# Altium footprint library PcbLib1.PcbLib: 35 footprints (part 1 of 3)
Each footprint in its own frame and in the unit in brackets; x right, y up, seen from the top. Pads: shape width x height; smd on the part's side, far side on the other; paste and mask are expansions set on the pad; w line width, h text height; cw(c..) or ccw(c..) is an arc to the next point about the centre after c.
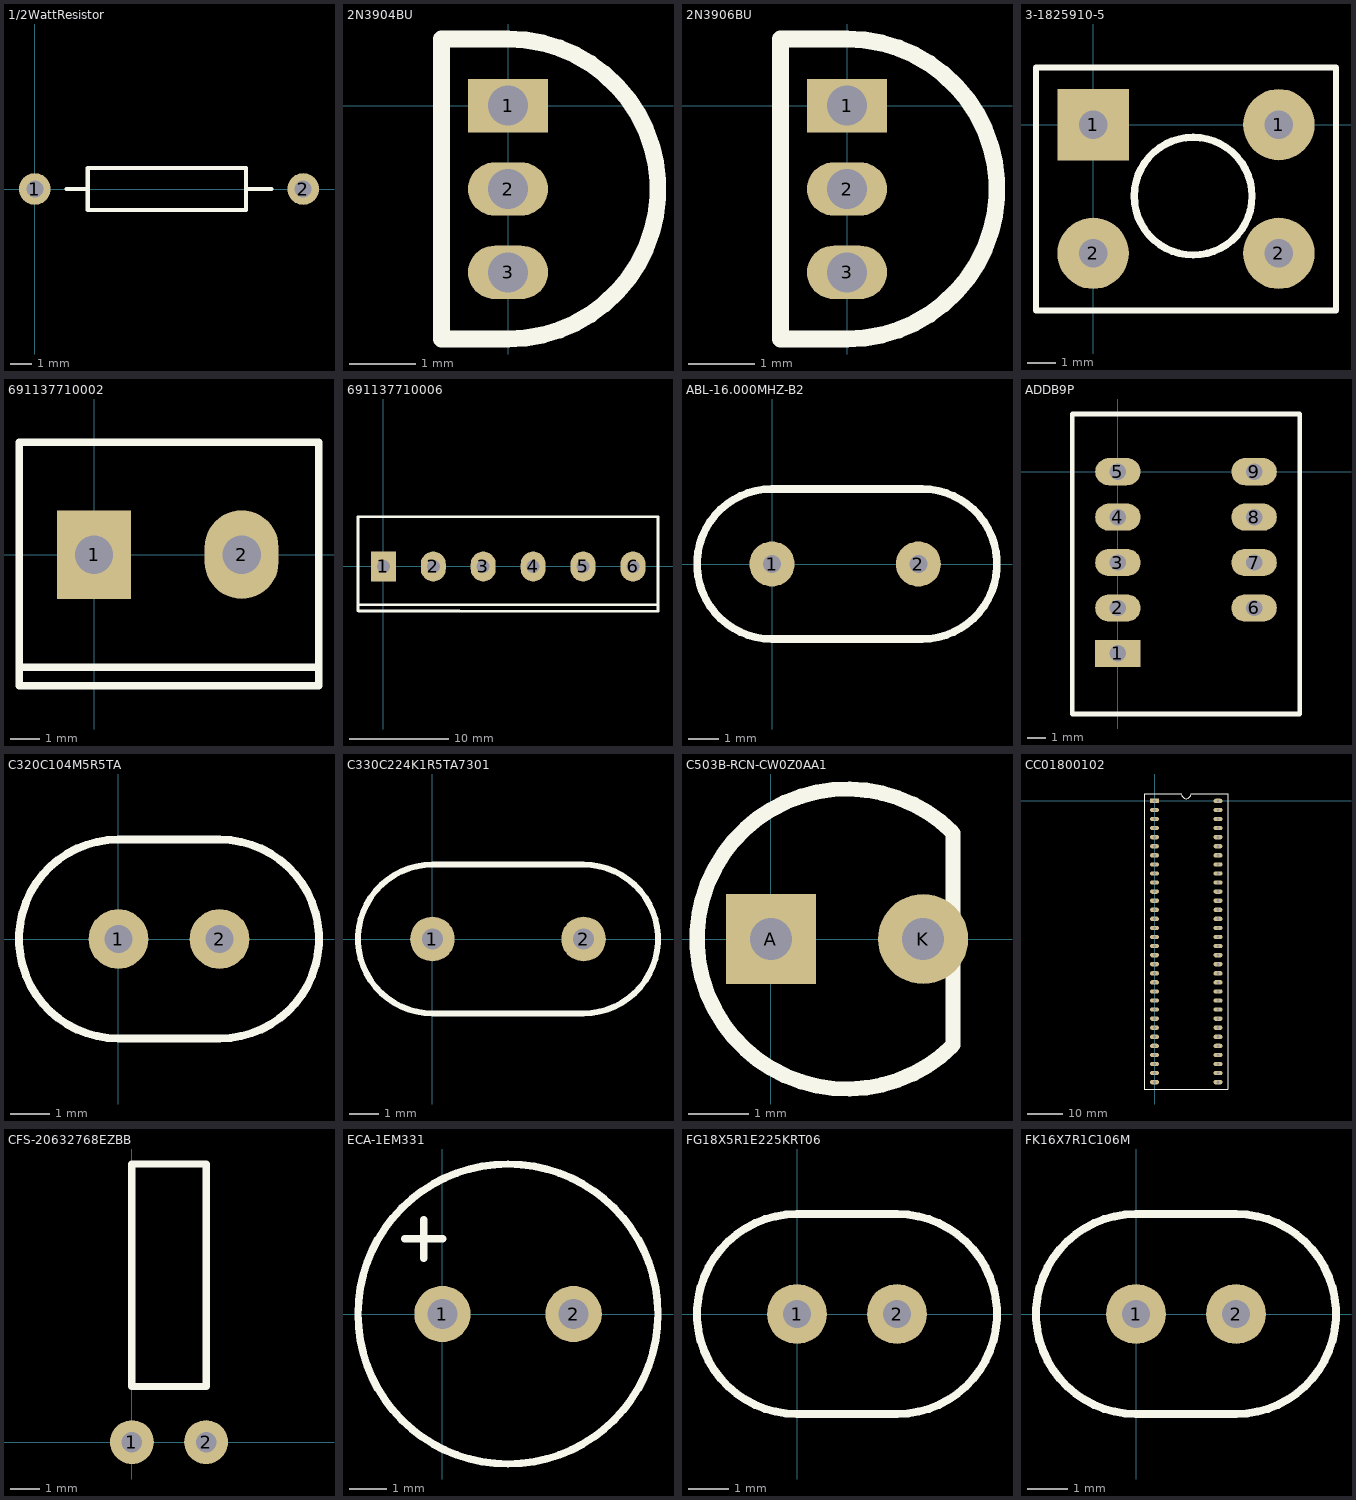
[diagram p0: the footprints below, top view; thin cyan lines are the x and y axes]

## 1/2WattResistor [mm]
pads (2):
  round 1.5 hole 0.8: 1(0,0) 2(12.7,0)
Top Overlay:
  lines w0.2: 1.5,0 2.5,0 ; 10,0 11.2,0 ; 2.5,0 2.5,1 10,1 10,-1 2.5,-1 2.5,0

## 2N3904BU [mm]
pads (3):
  rect 1.2x0.8 hole 0.6: 1(0,0)
  oval 1.2x0.8 hole 0.6: 2(0,-1.25) 3(0,-2.5)
Top Overlay:
  lines w0.254: -1,-3.5 -1,1 0,1 cw(c0,-1.25) 0,-3.5 -1,-3.5

## 2N3906BU [mm]
pads (3):
  rect 1.2x0.8 hole 0.6: 1(0,0)
  oval 1.2x0.8 hole 0.6: 2(0,-1.25) 3(0,-2.5)
Top Overlay:
  lines w0.254: -1,-3.5 -1,1 0,1 cw(c0,-1.25) 0,-3.5 -1,-3.5

## 3-1825910-5 [mm]
pads (4):
  rect 2.5x2.5 hole 1: 1(0,0)
  round 2.5 hole 1: 1(6.5,0) 2(0,-4.5) 2(6.5,-4.5)
Top Overlay:
  circle w0.254: c3.5,-2.5 r2.062
  lines w0.2: -2,-6.5 -2,-5 -2,1 -2,2 8.5,2 8.5,-6.5 -2,-6.5

## 691137710002 [mm]
pads (2):
  rect 2.5x3 hole 1.3: 1(0,0)
  oval 2.5x3 hole 1.3: 2(5,0)
Top Overlay:
  lines w0.254: -2.54,-3.81 7.62,-3.81 ; -2.54,-4.445 -2.54,3.81 7.62,3.81 7.62,-4.445 -2.54,-4.445

## 691137710006 [mm]
pads (6):
  rect 2.5x3 hole 1.3: 1(0,0)
  oval 2.5x3 hole 1.3: 2(5,0) 3(10,0) 4(15,0) 5(20,0) 6(25,0)
Top Overlay:
  lines w0.254: -2.54,-3.81 27.5,-3.81 ; -2.485,-4.5 27.5,-4.5 27.5,5 -2.54,5 -2.54,-4.445 7.62,-4.445

## ABL-16.000MHZ-B2 [mm]
pads (2):
  round 1.5 hole 0.6: 1(0,0) 2(4.88,0)
Top Overlay:
  lines w0.254: 0,-2.5 cw(c0,0) 0,2.5 5,2.5 cw(c5,0) 5,-2.5 0,-2.5

## ADDB9P [mm]
pads (9):
  rect 2.5x1.5 / inner rect 2.5x1.2 / far side rect 2.5x1.5 hole 0.9: 1(0,-10)
  oval 2.5x1.5 / inner oval 2.5x1.2 / far side oval 2.5x1.5 hole 0.9: 2(0,-7.5) 3(0,-5) 4(0,-2.5) 5(0,0) 6(7.5,-7.5) 7(7.5,-5) 8(7.5,-2.5) 9(7.5,0)
Top Overlay:
  lines w0.254: -2.5,-13.335 -2.5,3.175 10,3.175 10,-13.335 -2.5,-13.335

## C320C104M5R5TA [mm]
pads (2):
  round 1.5 hole 0.7: 1(0,0) 2(2.54,0)
Top Overlay:
  lines w0.2: 0,-2.5 cw(c0,0) 0,2.5 2.54,2.5 cw(c2.54,0) 2.54,-2.5 0,-2.5

## C330C224K1R5TA7301 [mm]
pads (2):
  round 1.5 hole 0.7: 1(0,0) 2(5.08,0)
Top Overlay:
  lines w0.2: 0,-2.5 cw(c0,0) 0,2.5 5.08,2.5 cw(c5.08,0) 5.08,-2.5 0,-2.5

## C503B-RCN-CW0Z0AA1 [mm]
pads (2):
  rect 1.5x1.5 hole 0.7: A(0,0)
  round 1.5 hole 0.7: K(2.54,0)
Top Overlay:
  lines w0.254: 3.038,-1.768 cw(c1.27,0) 3.038,1.768 3.038,-1.768

## CC01800102 [mm]
pads (64):
  rect 2.5x1.2 hole 0.9: 1(0,0)
  oval 2.5x1.2 hole 0.9: 2(0,-2.54) 3(0,-5.08) 4(0,-7.62) 5(0,-10.16) 6(0,-12.7) 7(0,-15.24) 8(0,-17.78) 9(0,-20.32) 10(0,-22.86) 11(0,-25.4) 12(0,-27.94) 13(0,-30.48) 14(0,-33.02) 15(0,-35.56) 16(0,-38.1) 17(0,-40.64) 18(0,-43.18) 19(0,-45.72) 20(0,-48.26) 21(0,-50.8) 22(0,-53.34) 23(0,-55.88) 24(0,-58.42) 25(0,-60.96) 26(0,-63.5) 27(0,-66.04) 28(0,-68.58) 29(0,-71.12) 30(0,-73.66) 31(0,-76.2) 32(0,-78.74) 33(17.78,-78.74) 34(17.78,-76.2) 35(17.78,-73.66) 36(17.78,-71.12) 37(17.78,-68.58) 38(17.78,-66.04) 39(17.78,-63.5) 40(17.78,-60.96) 41(17.78,-58.42) 42(17.78,-55.88) 43(17.78,-53.34) 44(17.78,-50.8) 45(17.78,-48.26) 46(17.78,-45.72) 47(17.78,-43.18) 48(17.78,-40.64) 49(17.78,-38.1) 50(17.78,-35.56) 51(17.78,-33.02) 52(17.78,-30.48) 53(17.78,-27.94) 54(17.78,-25.4) 55(17.78,-22.86) 56(17.78,-20.32) 57(17.78,-17.78) 58(17.78,-15.24) 59(17.78,-12.7) 60(17.78,-10.16) 61(17.78,-7.62) 62(17.78,-5.08) 63(17.78,-2.54) 64(17.78,0)
Top Overlay:
  lines w0.2: 7.525,2 -2.875,2 -2.875,-80.65 20.5,-80.65 20.5,2 10.255,2
  lines w0.254: 7.525,2 ccw(c8.875,1.975) 10.225,1.999

## CFS-20632768EZBB [mm]
pads (2):
  round 1.5 hole 0.7: 1(0,0) 2(2.54,0)
Top Overlay:
  lines w0.254: 0,1.905 0,9.525 2.54,9.525 2.54,1.905 0,1.905

## ECA-1EM331 [mm]
pads (2):
  round 1.5 hole 0.8: 1(0,0) 2(3.5,0)
Top Overlay:
  circle w0.2: c1.75,0 r4
  lines w0.2: -1,2 0.016,2 ; -0.492,1.492 -0.492,2.508

## FG18X5R1E225KRT06 [mm]
pads (2):
  round 1.5 hole 0.7: 1(0,0) 2(2.5,0)
Top Overlay:
  lines w0.2: 0,-2.5 cw(c0,0) 0,2.5 2.5,2.5 cw(c2.5,0) 2.5,-2.5 0,-2.5

## FK16X7R1C106M [mm]
pads (2):
  round 1.5 / inner round 1 / far side round 1.5 hole 0.7: 1(0,0) 2(2.5,0)
Top Overlay:
  lines w0.2: 0,-2.5 cw(c0,0) 0,2.5 2.5,2.5 cw(c2.5,0) 2.5,-2.5 0,-2.5